# Altium schematic symbol library SCH - MCU - STM32 - ST MICROELECTRONICS STM32WB10CCUX UFQFPN48.SchLib: 1 symbol
Pins are listed as number, name and electrical type; pins without a type are passive.

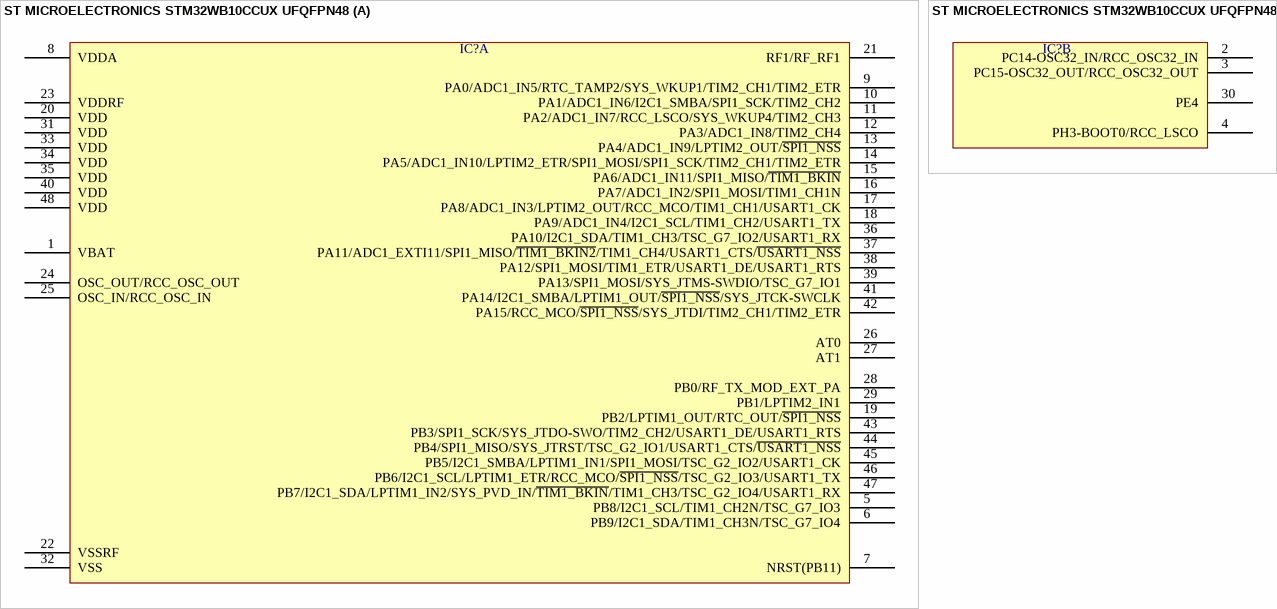
[diagram p0: symbol ST MICROELECTRONICS STM32WB10CCUX UFQFPN48]

## ST MICROELECTRONICS STM32WB10CCUX UFQFPN48
designator IC?  (value not drawn)
part A pins: 1 VBAT, 5 PB8/I2C1_SCL/TIM1_CH2N/TSC_G7_IO3, 6 PB9/I2C1_SDA/TIM1_CH3N/TSC_G7_IO4, 7 NRST(PB11), 8 VDDA, 9 PA0/ADC1_IN5/RTC_TAMP2/SYS_WKUP1/TIM2_CH1/TIM2_ETR, 10 PA1/ADC1_IN6/I2C1_SMBA/SPI1_SCK/TIM2_CH2, 11 PA2/ADC1_IN7/RCC_LSCO/SYS_WKUP4/TIM2_CH3, 12 PA3/ADC1_IN8/TIM2_CH4, 13 PA4/ADC1_IN9/LPTIM2_OUT/~{SPI1_NSS}, 14 PA5/ADC1_IN10/LPTIM2_ETR/SPI1_MOSI/SPI1_SCK/TIM2_CH1/TIM2_ETR, 15 PA6/ADC1_IN11/SPI1_MISO/~{TIM1_BKIN}, 16 PA7/ADC1_IN2/SPI1_MOSI/TIM1_CH1N, 17 PA8/ADC1_IN3/LPTIM2_OUT/RCC_MCO/TIM1_CH1/USART1_CK, 18 PA9/ADC1_IN4/I2C1_SCL/TIM1_CH2/USART1_TX, 19 PB2/LPTIM1_OUT/RTC_OUT/~{SPI1_NSS}, 20 VDD, 21 RF1/RF_RF1, 22 VSSRF, 23 VDDRF, 24 OSC_OUT/RCC_OSC_OUT, 25 OSC_IN/RCC_OSC_IN, 26 AT0, 27 AT1, 28 PB0/RF_TX_MOD_EXT_PA, 29 PB1/LPTIM2_IN1, 31 VDD, 32 VSS, 33 VDD, 34 VDD, 35 VDD, 36 PA10/I2C1_SDA/TIM1_CH3/TSC_G7_IO2/USART1_RX, 37 PA11/ADC1_EXTI11/SPI1_MISO/~{TIM1_BKIN2}/TIM1_CH4/USART1_CTS/~{USART1_NSS}, 38 PA12/SPI1_MOSI/TIM1_ETR/USART1_DE/USART1_RTS, 39 PA13/SPI1_MOSI/SYS_JTMS-SWDIO/TSC_G7_IO1, 40 VDD, 41 PA14/I2C1_SMBA/LPTIM1_OUT/~{SPI1_NSS}/SYS_JTCK-SWCLK, 42 PA15/RCC_MCO/~{SPI1_NSS}/SYS_JTDI/TIM2_CH1/TIM2_ETR, 43 PB3/SPI1_SCK/SYS_JTDO-SWO/TIM2_CH2/USART1_DE/USART1_RTS, 44 PB4/SPI1_MISO/SYS_JTRST/TSC_G2_IO1/USART1_CTS/~{USART1_NSS}, 45 PB5/I2C1_SMBA/LPTIM1_IN1/SPI1_MOSI/TSC_G2_IO2/USART1_CK, 46 PB6/I2C1_SCL/LPTIM1_ETR/RCC_MCO/~{SPI1_NSS}/TSC_G2_IO3/USART1_TX, 47 PB7/I2C1_SDA/LPTIM1_IN2/SYS_PVD_IN/~{TIM1_BKIN}/TIM1_CH3/TSC_G2_IO4/USART1_RX, 48 VDD
part B pins: 2 PC14-OSC32_IN/RCC_OSC32_IN, 3 PC15-OSC32_OUT/RCC_OSC32_OUT, 4 PH3-BOOT0/RCC_LSCO, 30 PE4